# Altium schematic symbol library RC0805JR-071RL.SchLib: 1 symbol
Pins are listed as number, name and electrical type; pins without a type are passive.

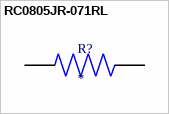
[diagram p0: symbol RC0805JR-071RL]

## RC0805JR-071RL
designator R?
1 Ohms Â±5% 0.125W, 1/8W Chip Resistor 0805 (2012 Metric) Thick Film; MF: Yageo; MP: RC0805JR-071RL; Purchase-URL: https://pricing.snapeda.com/search/part/RC0805JR-071RL/?ref=eda; Package: 2012 Rohm Semiconductor; Check_prices: https://www.snapeda.com/parts/RC0805JR-071RL/Yageo/view-part/615240/?ref=eda; Digi-Key_Part_Number: 311-1.0ARCT-ND; Value: *; SnapEDA_Link: https://www.snapeda.com/parts/RC0805JR-071RL/Yageo/view-part/615240/?ref=snap
footprint RESC2012X60N
pins: 1, 2